# EAGLE library part L5973D (library L5973D)
L5973D Series 36 V 2.5 A Switch Step Down Switching Regulator SMT - HSOP-8
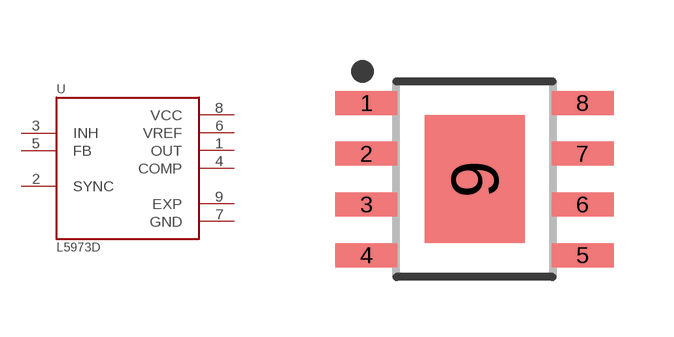
[diagram p0: symbol with the pads of SOIC127P600X170-9N; footprint SOIC127P600X170-9N]

Designator prefix U

## L5973D (Availability: Unavailable; Description: Buck Switching Regulator IC Positive Adjustable 1.235V 1 Output 2.5A 8-SOIC _0.154, 3.90mm Width_ Exposed Pad; MF: STMicroelectronics; MP: L5973D; Package: HSOP-8 STMicroelectronics; Price: None)  [SOIC127P600X170-9N]
1  OUT  out
2  SYNC
3  INH  in
4  COMP  out
5  FB  in
6  VREF  pwr
7  GND  pwr
8  VCC  pwr
9  EXP  pwr

## Footprint SOIC127P600X170-9N (pad centres in mm)
smd 1.55 x 0.6: 1 -2.7,1.905; 2 -2.7,0.635; 3 -2.7,-0.635; 4 -2.7,-1.905; 5 2.7,-1.905; 6 2.7,-0.635; 7 2.7,0.635; 8 2.7,1.905
smd 2.5 x 3.2: 9 0,0